# Altium footprint library FB_0603.PcbLib: 1 footprints
Each footprint in its own frame and in the unit in brackets; x right, y up, seen from the top. Pads: shape width x height; smd on the part's side, far side on the other; paste and mask are expansions set on the pad; w line width, h text height; cw(c..) or ccw(c..) is an arc to the next point about the centre after c.
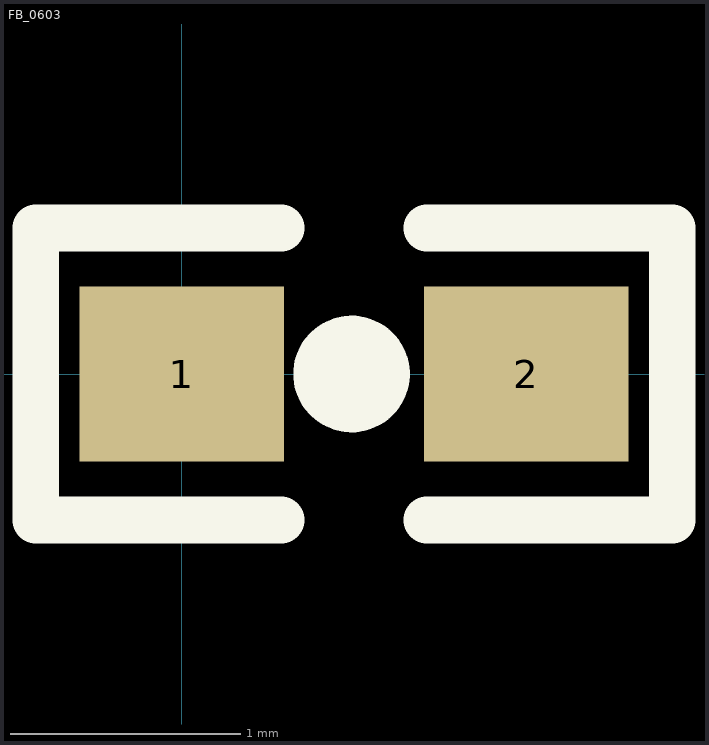
[diagram p0: the footprint, top view; thin cyan lines are the x and y axes]

## FB_0603 [mil]
height 25
pads (2):
  rect 35x30 smd: 1(0,0) 2(59,0)
TopOverlay:
  circle w10: c29.08,0 r4.99
  lines w8: 17,-25 -25,-25 -25,25 17,25 ; 42,-25 84,-25 84,25 42,25
Mechanical4:
  text "0.0311" at 2,0 h1
3D body: height 12.49, standoff 0.6, extent -2.04,-15.86 60.95,15.64